# EAGLE library part 416131160804 (library Eagle_Wuerth_Elektronik_Switch)
WS-HP-1.27 mm small compact SMD Dip Switch with top tape,8 pins,4 poles
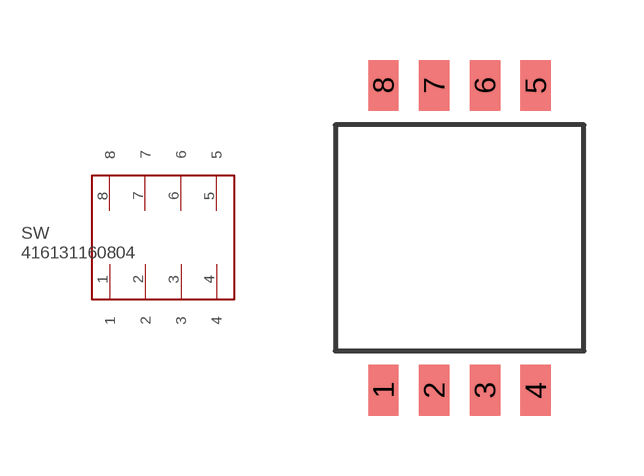
[diagram p24: symbol with the pads of 416131160804; footprint 416131160804]

Designator prefix SW

## 416131160804  [416131160804]
1  1
2  2
3  3
4  4
5  5
6  6
7  7
8  8

## Footprint 416131160804 (pad centres in mm)
WS-HP-1.27 mm small compact SMD Dip Switch with top tape,8 pins,4 poles
smd 0.76 x 1.27: 1 0,-3.81; 2 1.27,-3.81; 3 2.54,-3.81; 4 3.81,-3.81; 5 3.81,3.81; 6 2.54,3.81; 7 1.27,3.81; 8 0,3.81